# EAGLE library part DS2482-100 (library custom)
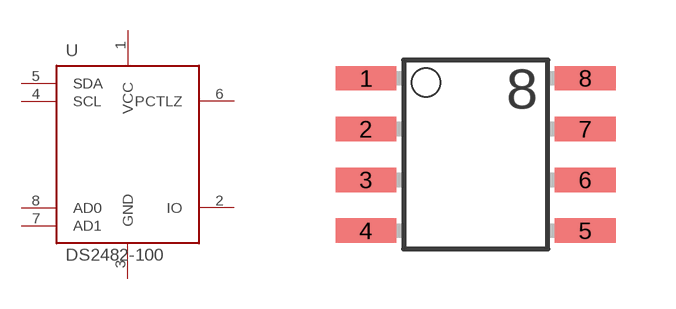
[diagram p6: symbol with the pads of SO-8; footprint SO-8]

Designator prefix -

## DS2482-100  [SO-8]
1  VCC
2  IO
3  GND
4  SCL
5  SDA
6  PCTLZ
7  AD1
8  AD0

## Footprint SO-8 (pad centres in mm)
SO 8 small outline
smd 1.524 x 0.61: 1 -2.743,1.905; 2 -2.743,0.635; 3 -2.743,-0.635; 4 -2.743,-1.905; 5 2.743,-1.905; 6 2.743,-0.635; 7 2.743,0.635; 8 2.743,1.905